# Altium footprint library ESD122DMXR.PcbLib: 1 footprints
Each footprint in its own frame and in the unit in brackets; x right, y up, seen from the top. Pads: shape width x height; smd on the part's side, far side on the other; paste and mask are expansions set on the pad; w line width, h text height; cw(c..) or ccw(c..) is an arc to the next point about the centre after c.
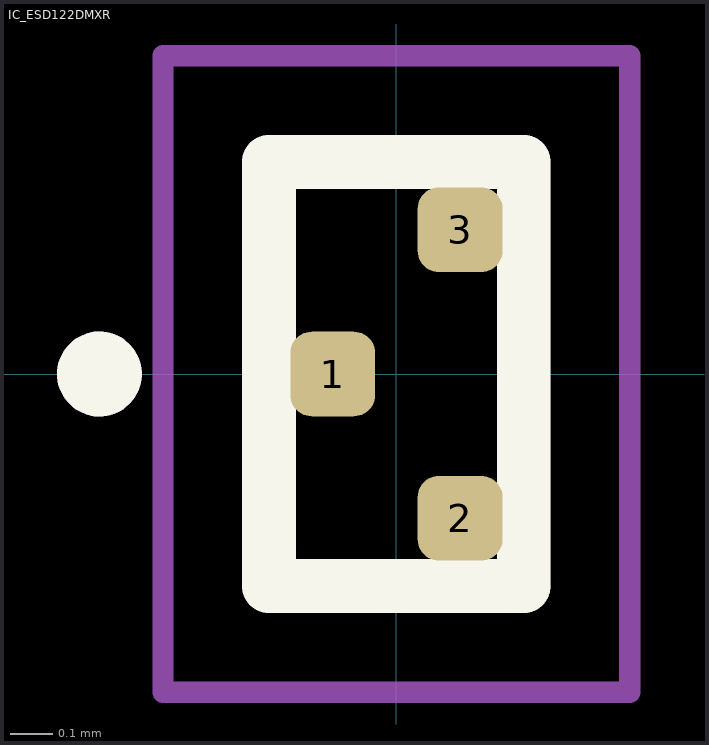
[diagram p0: the footprint, top view; thin cyan lines are the x and y axes]

## IC_ESD122DMXR [mm]
pads (3):
  rrect50% 0.2x0.2 smd mask+0: 1(-0.15,0) 2(0.15,-0.34) 3(0.15,0.34)
Top Overlay:
  circle w0.1: c-0.7,0 r0.05
  lines w0.127: -0.3,-0.5 0.3,-0.5 0.3,0.5 -0.3,0.5 -0.3,-0.5
Mechanical 13:
  circle w0.1: c-0.7,0 r0.05
  lines w0.127: -0.3,-0.5 0.3,-0.5 0.3,0.5 -0.3,0.5 -0.3,-0.5
Mechanical 15:
  lines w0.05: -0.55,-0.75 -0.55,0.75 0.55,0.75 0.55,-0.75 -0.55,-0.75
3D body "step_temp.STEP": height 0.4, standoff 0, extent -0.5,-0.3 0.5,0.3